# Altium schematic symbol library TPD4E05U06DQAR.SchLib: 1 symbol
Pins are listed as number, name and electrical type; pins without a type are passive.

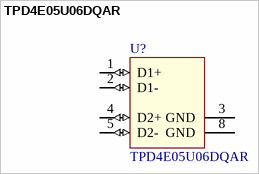
[diagram p0: symbol TPD4E05U06DQAR]

## TPD4E05U06DQAR
designator U?
Value: *
footprint *TI_TPD4E05U06DQAR
pins: 1 D1+ (io), 2 D1- (io), 3 GND (power), 4 D2+ (io), 5 D2- (io), 8 GND (power)